# Altium footprint library Transistors.PcbLib: 7 footprints
Each footprint in its own frame and in the unit in brackets; x right, y up, seen from the top. Pads: shape width x height; smd on the part's side, far side on the other; paste and mask are expansions set on the pad; w line width, h text height; cw(c..) or ccw(c..) is an arc to the next point about the centre after c.
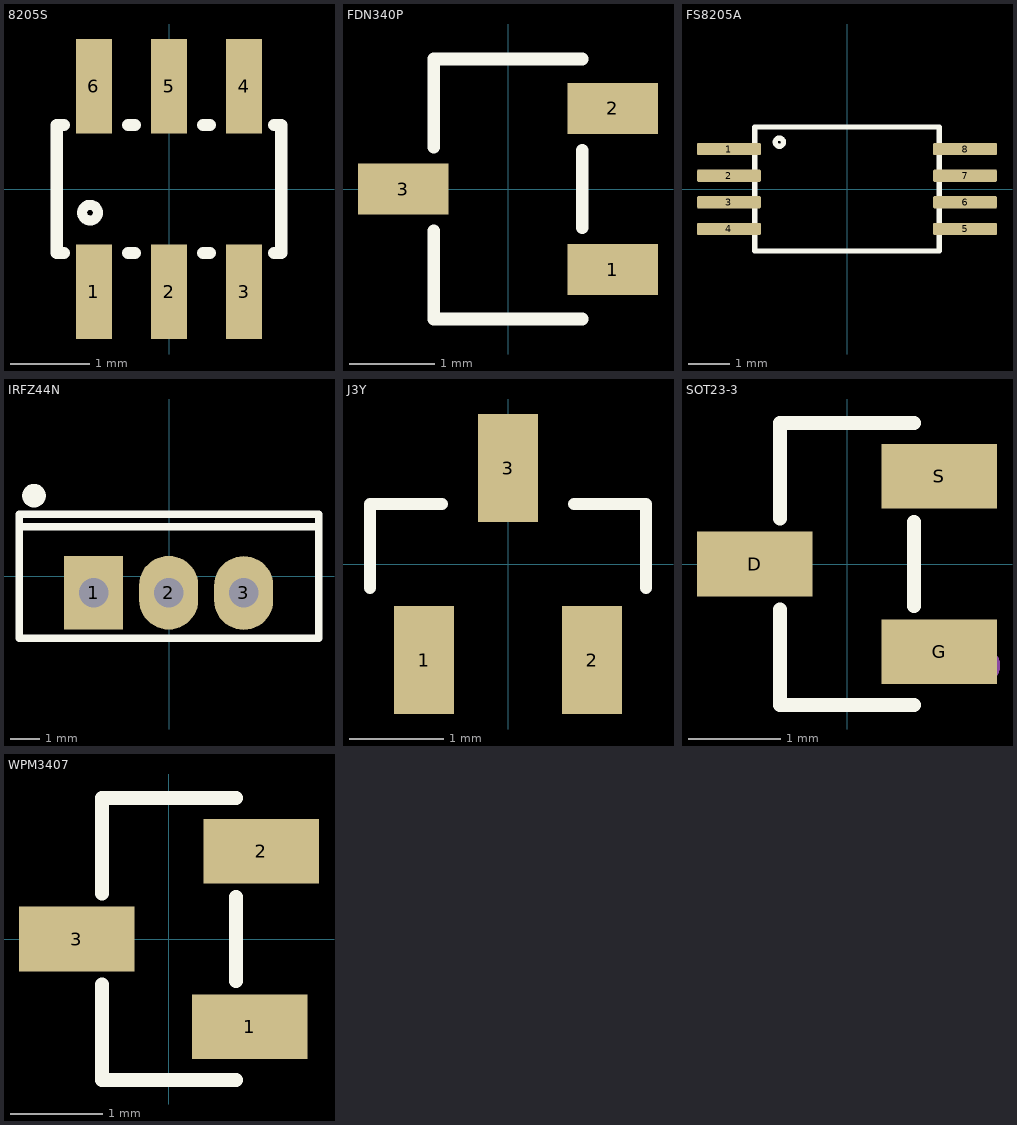
[diagram p0: the footprints below, top view; thin cyan lines are the x and y axes]

## 8205S [mm] "SOT-23-6"
pads (6):
  rect 0.45x1.2 smd: 1(-0.95,-1.3) 2(0,-1.3) 3(0.95,-1.3) 4(0.95,1.3) 5(0,1.3) 6(-0.95,1.3)
Top Overlay:
  circle w0.127: c-1,-0.3 r0.1
  lines w0.152: -1.328,-0.81 -1.422,-0.81 -1.422,0.81 -1.328,0.81 ; -0.522,-0.81 -0.428,-0.81 ; -0.522,0.81 -0.428,0.81 ; 0.428,-0.81 0.522,-0.81 ; 0.428,0.81 0.522,0.81 ; 1.328,-0.81 1.422,-0.81 1.422,0.81 1.328,0.81
3D body "step_temp.STEP": height 1.45, standoff 0, extent -1.45,-1.4 1.45,1.4

## FDN340P [mm] "SOT-23-3"
pads (3):
  rect 1.07x0.6 smd: 1(1.235,-0.95) 2(1.235,0.95) 3(-1.235,0)
Top Overlay:
  lines w0.152: -0.876,-0.495 -0.876,-1.536 0.876,-1.536 ; -0.876,0.495 -0.876,1.536 0.876,1.536 ; 0.876,-0.455 0.876,0.455
3D body "FDN340P.stp": height 0.96, standoff 0, extent -1.26,-1.463 1.26,1.457

## FS8205A [mm] "TSSOP-8"
pads (8):
  rrect25% 1.56x0.3 smd: 1(-2.88,0.975) 2(-2.88,0.325) 3(-2.88,-0.325) 4(-2.88,-0.975) 5(2.88,-0.975) 6(2.88,-0.325) 7(2.88,0.325) 8(2.88,0.975)
Top Overlay:
  circle w0.127: c-1.651,1.143 r0.1
  lines w0.127: -2.25,-1.515 -2.25,1.515 2.25,1.515 2.25,-1.515 -2.25,-1.515
3D body "FS8205A.STEP": height 1.2, standoff 0, extent -3.2,-1.465 3.2,1.465

## IRFZ44N [mm] "TO-220"
pads (3):
  rect 2x2.5 hole 1: 1(-2.549,-0.553)
  oval 2x2.5 hole 1: 2(-0.009,-0.553) 3(2.531,-0.563)
Top Overlay:
  lines w0.254: -5.08,1.683 5.08,1.683 ; -5.08,-2.095 -5.08,2.095 5.08,2.095 5.08,-2.095 -5.08,-2.095
  lines w0.4: -4.573,2.93 ccw(c-4.572,2.73) -4.571,2.93
3D body "IRFZ44N.step": height 19.37, standoff -13.52, extent -5.08,-2.039 5.08,2.166

## J3Y [mil] "SOT-23-3"
pads (3):
  rect 25x45 smd: 1(-35,-40) 2(35,-40) 3(0,40)
Top Overlay:
  lines w5: -57.5,-10 -57.5,25 -27.5,25 ; 27.5,25 57.5,25 57.5,-10
3D body "J3Y.STEP": height 49.21, standoff 0, extent -57.48,-41.65 57.48,51.65

## SOT23-3 [mm]
pads (3):
  rect 1.25x0.7 smd paste+0 mask+0.051: D(-1,0) G(1,-0.95) S(1,0.95)
Top Overlay:
  lines w0.152: -0.726,-0.495 -0.726,-1.526 0.726,-1.526 ; -0.726,0.495 -0.726,1.526 0.726,1.526 ; 0.726,-0.455 0.726,0.455
Mechanical 15:
  circle w0.2: c1.46,-1.1 r0.1
3D body "SOT23-3.step": height 1.1, standoff 0, extent -1.25,-1.498 1.25,1.499

## WPM3407 [mm] "SOT-23-3"
pads (3):
  rect 1.25x0.7 smd: 1(0.873,-0.95) 2(1,0.95) 3(-1,0)
Top Overlay:
  lines w0.152: -0.726,-0.495 -0.726,-1.526 0.726,-1.526 ; -0.726,0.495 -0.726,1.526 0.726,1.526 ; 0.726,-0.455 0.726,0.455
3D body "WPM3407.stp": height 1, standoff 0, extent -1.248,-1.491 1.202,1.513